# Altium integrated library Micron Memory DDR3 SDRAM.IntLib: 123 symbols (part 32 of 37)
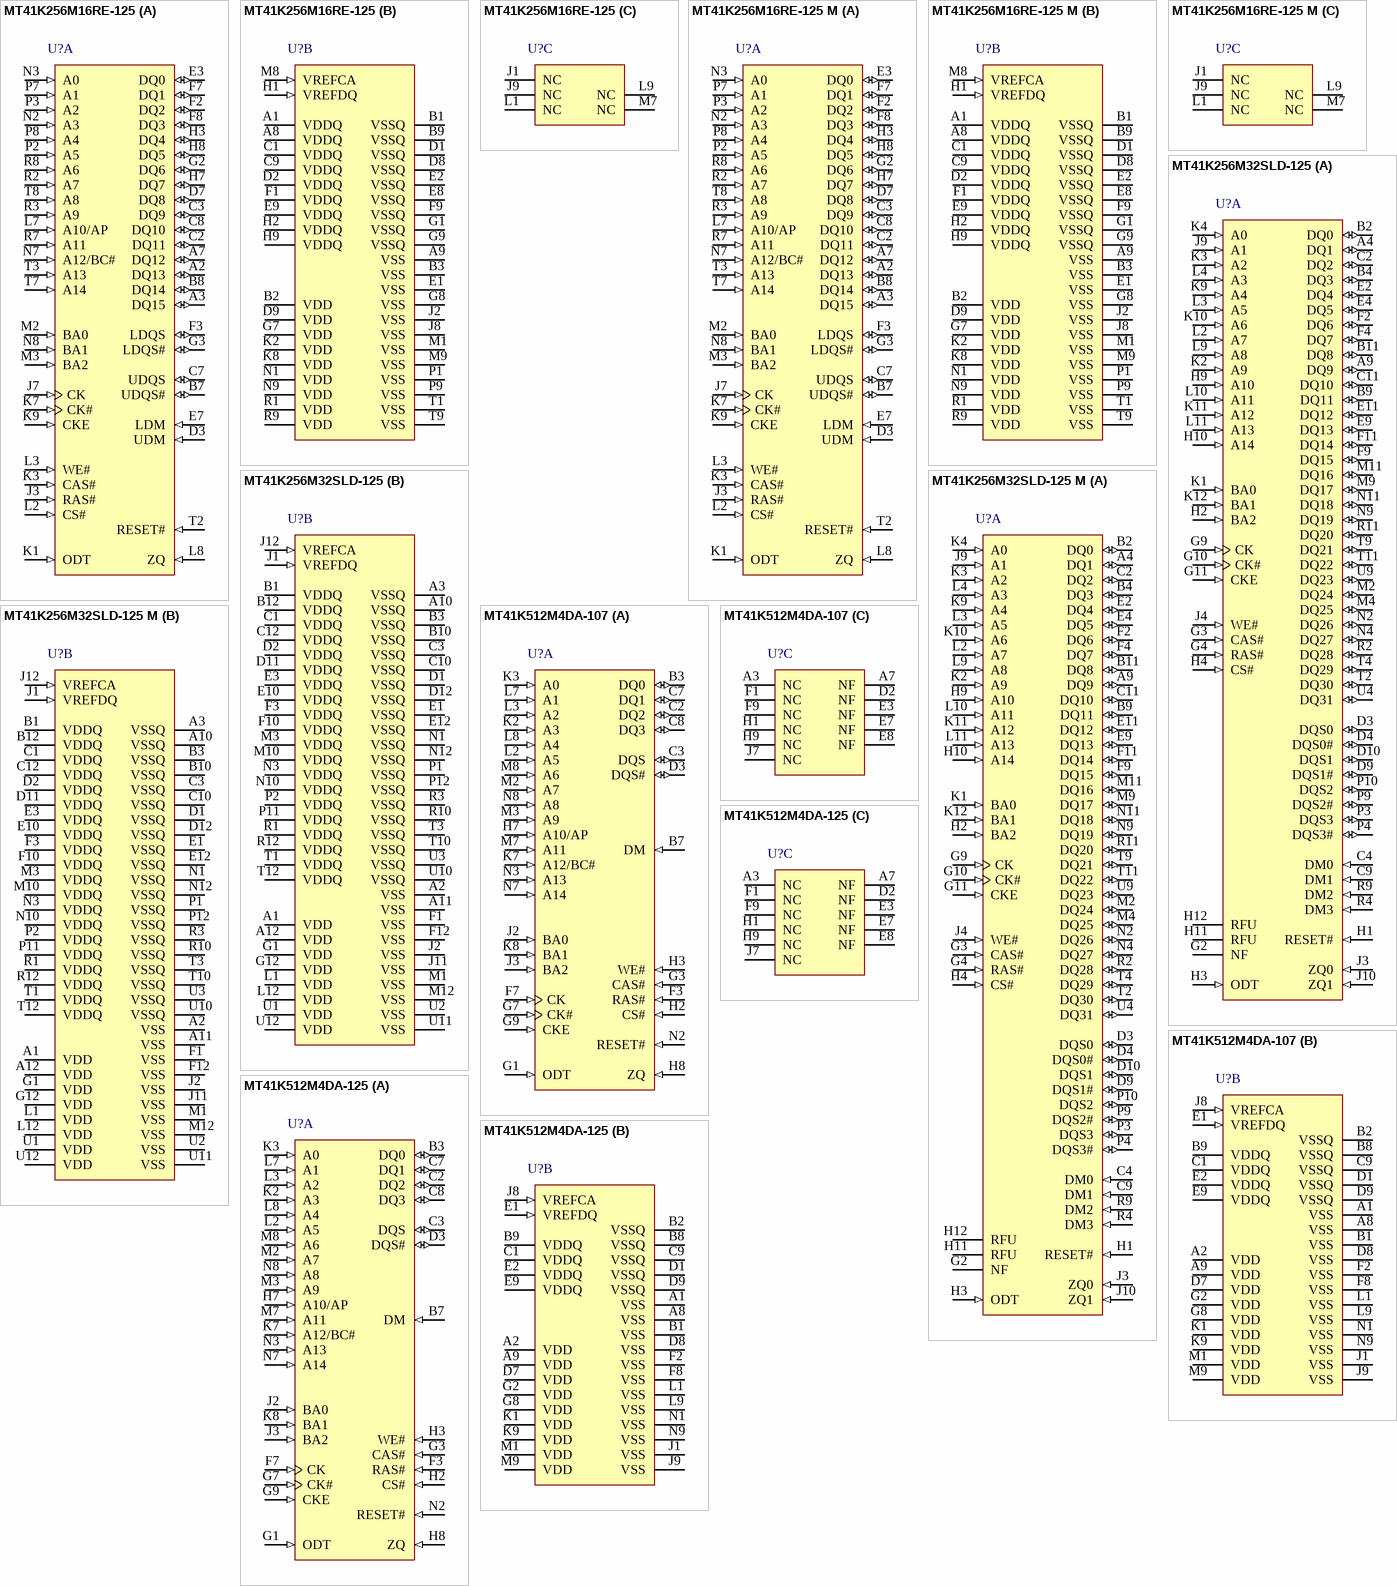
[diagram p49: symbols MT41K256M16RE-125 to MT41K512M4DA-125]

## MT41K256M32SLD-125
designator U?
4Gb SDRAM, 256Mb x 32, 1.25ns, 1.35V, 0 to 95 degC, 136-Ball FBGA, Pb-Free; Manufacturer: Micron; PartNumber: MT41K256M32SLD-125; CL: CL = 11; Clock Rate: 800 MHz; Density: 8Gb; Op. Temp.: 0C to +95C; DatasheetVersion: Rev. B; PackageReference: MICT-SLD-136; PackageDescription: 136-Ball Fine-Pitch Ball Grid Array, 14 x 10 mm, Pitch 0.8 mm; Cycle Time: 1.25ns; Depth: 256Mb; Package: FBGA; RoHS: Yes; Voltage: 1.35V; Width: x32; Mounting Technology: Surface Mount; ComponentLink1Description: Manufacturer URL; ComponentLink1URL: http://www.micron.com/; ComponentLink2Description: Datasheet; ComponentLink2URL: http://www.micron.com/~/media/Documents/Products/Data%20Sheet/DRAM/DDR3L_8Gb_x32_1CS_TwinDie_V70S_V80A.pdf; ComponentLink3Description: Package Specification; ComponentLink3URL: http://www.micron.com/~/media/Documents/Products/Data%20Sheet/DRAM/DDR3L-RS_8Gb_x32_1CS_TwinDie_V80A.pdf
footprint MICT-SLD-136 (BGA, 100-Balls, Body 14x10mm, Pitch 0.8mm)
part A pins: A4 DQ1 (io) "Data input/output: Bidirectional data bus. DQ[31:0] are referenced to VREFDQ.", A9 DQ9 (io) "Data input/output: Bidirectional data bus. DQ[31:0] are referenced to VREFDQ.", B2 DQ0 (io) "Data input/output: Bidirectional data bus. DQ[31:0] are referenced to VREFDQ.", B4 DQ3 (io) "Data input/output: Bidirectional data bus. DQ[31:0] are referenced to VREFDQ.", B9 DQ11 (io) "Data input/output: Bidirectional data bus. DQ[31:0] are referenced to VREFDQ.", B11 DQ8 (io) "Data input/output: Bidirectional data bus. DQ[31:0] are referenced to VREFDQ.", C2 DQ2 (io) "Data input/output: Bidirectional data bus. DQ[31:0] are referenced to VREFDQ.", C4 DM0 (in) "Input data mask: DM is an input mask signal for write data. Input data is masked when DM is sampled HIGH, along with the input data, during a write access. Although the DM ball is input-only, the DM loading is designed to (See Datasheet)", C9 DM1 (in) "Input data mask: DM is an input mask signal for write data. Input data is masked when DM is sampled HIGH, along with the input data, during a write access. Although the DM ball is input-only, the DM loading is designed to (See Datasheet)", C11 DQ10 (io) "Data input/output: Bidirectional data bus. DQ[31:0] are referenced to VREFDQ.", D3 DQS0 (io) "Data strobe: DQS and DQS# pairs are differential data strobes; there is one DQS and DQS# pair per byte. The DQS strobes output with read data; edge aligned with read data; input with write data; center-aligned with write (See Datasheet)", D4 DQS0# (io) "Data strobe: DQS and DQS# pairs are differential data strobes; there is one DQS and DQS# pair per byte. The DQS strobes output with read data; edge aligned with read data; input with write data; center-aligned with write (See Datasheet)", D9 DQS1# (io) "Data strobe: DQS and DQS# pairs are differential data strobes; there is one DQS and DQS# pair per byte. The DQS strobes output with read data; edge aligned with read data; input with write data; center-aligned with write (See Datasheet)", D10 DQS1 (io) "Data strobe: DQS and DQS# pairs are differential data strobes; there is one DQS and DQS# pair per byte. The DQS strobes output with read data; edge aligned with read data; input with write data; center-aligned with write (See Datasheet)", E2 DQ4 (io) "Data input/output: Bidirectional data bus. DQ[31:0] are referenced to VREFDQ.", E4 DQ5 (io) "Data input/output: Bidirectional data bus. DQ[31:0] are referenced to VREFDQ.", E9 DQ13 (io) "Data input/output: Bidirectional data bus. DQ[31:0] are referenced to VREFDQ.", E11 DQ12 (io) "Data input/output: Bidirectional data bus. DQ[31:0] are referenced to VREFDQ.", F2 DQ6 (io) "Data input/output: Bidirectional data bus. DQ[31:0] are referenced to VREFDQ.", F4 DQ7 (io) "Data input/output: Bidirectional data bus. DQ[31:0] are referenced to VREFDQ.", F9 DQ15 (io) "Data input/output: Bidirectional data bus. DQ[31:0] are referenced to VREFDQ.", F11 DQ14 (io) "Data input/output: Bidirectional data bus. DQ[31:0] are referenced to VREFDQ.", G2 NF "No function: These balls should be left unconnected (the ball may have connection to the DRAM or to other balls).", G3 CAS# (in) "Command inputs: RAS#, CAS#, and WE# (along with CS#) define the command being entered and are referenced to VREFCA.", G4 RAS# (in) "Command inputs: RAS#, CAS#, and WE# (along with CS#) define the command being entered and are referenced to VREFCA.", G9 CK (in) "Clock: CK and CK# are differential clock inputs. All command, address, and control input signals are sampled on the crossing of the positive edge of CK and the negative edge of CK#. Output data strobe (DQS, DQS#) is (See Datasheet)", G10 CK# (in) "Clock: CK and CK# are differential clock inputs. All command, address, and control input signals are sampled on the crossing of the positive edge of CK and the negative edge of CK#. Output data strobe (DQS, DQS#) is (See Datasheet)", G11 CKE (in) "Clock enable: CKE enables (registered HIGH) and disables (registered LOW) internal circuitry and clocks on the DRAM. The specific circuitry that is enabled/disabled is dependent upon the DDR3L SDRAM configuration and (See Datasheet)", H1 RESET# (in) "Reset: RESET# is an active LOW CMOS input referenced to VSS. The RESET# input receiver is a CMOS input defined as a rail-to-rail signal with DC HIGH >= 0.8 x VDDQ and DC LOW =< 0.2 x VDDQ. RESET# assertion and desertion are (See Datasheet)", H2 BA2 (in) "Bank address inputs: BA[2:0] define the bank to which an ACTIVATE, READ, WRITE, or PRECHARGE command is being applied. BA[2:0] define which mode register (MR0, MR1, MR2, or MR3) is loaded during the LOAD MODE command. (See Datasheet)", H3 ODT (in) "On-die termination: ODT enables (registered HIGH) and disables (registered LOW) termination resistance internal to the DDR3 SDRAM. When enabled in normal operation, ODT is only applied to DQ[31:0], DQS[3:0], DQS#[3:0], and (See Datasheet)", H4 CS# (in) "Chip select: CS# enables (registered LOW) and disables (registered HIGH) the command decoder. All commands are masked when CS# is registered HIGH. CS# provides for external rank selection on systems with multiple ranks. CS0# (See Datasheet)", H9 A10 (in) "Address inputs: Provide the row address for ACTIVATE commands, and the column address and auto precharge bit (A10) for READ/WRITE commands, to select one location out of the memory array in the respective bank. A10 sampled (See Datasheet)", H10 A14 (in) "Address inputs: Provide the row address for ACTIVATE commands, and the column address and auto precharge bit (A10) for READ/WRITE commands, to select one location out of the memory array in the respective bank. A10 sampled (See Datasheet)", H11 RFU, H12 RFU, J3 ZQ0 (in) "External reference ball for output drive calibration: Each ball is tied to its own external 240ohm resistor (RZQ), which is tied to VSSQ. Each resistor is connected to a seperate x16 die.", J4 WE# (in) "Command inputs: RAS#, CAS#, and WE# (along with CS#) define the command being entered and are referenced to VREFCA.", J9 A1 (in) "Address inputs: Provide the row address for ACTIVATE commands, and the column address and auto precharge bit (A10) for READ/WRITE commands, to select one location out of the memory array in the respective bank. A10 sampled (See Datasheet)", J10 ZQ1 (in) "External reference ball for output drive calibration: Each ball is tied to its own external 240ohm resistor (RZQ), which is tied to VSSQ. Each resistor is connected to a seperate x16 die.", K1 BA0 (in) "Bank address inputs: BA[2:0] define the bank to which an ACTIVATE, READ, WRITE, or PRECHARGE command is being applied. BA[2:0] define which mode register (MR0, MR1, MR2, or MR3) is loaded during the LOAD MODE command. (See Datasheet)", K2 A9 (in) "Address inputs: Provide the row address for ACTIVATE commands, and the column address and auto precharge bit (A10) for READ/WRITE commands, to select one location out of the memory array in the respective bank. A10 sampled (See Datasheet)", K3 A2 (in) "Address inputs: Provide the row address for ACTIVATE commands, and the column address and auto precharge bit (A10) for READ/WRITE commands, to select one location out of the memory array in the respective bank. A10 sampled (See Datasheet)", K4 A0 (in) "Address inputs: Provide the row address for ACTIVATE commands, and the column address and auto precharge bit (A10) for READ/WRITE commands, to select one location out of the memory array in the respective bank. A10 sampled (See Datasheet)", K9 A4 (in) "Address inputs: Provide the row address for ACTIVATE commands, and the column address and auto precharge bit (A10) for READ/WRITE commands, to select one location out of the memory array in the respective bank. A10 sampled (See Datasheet)", K10 A6 (in) "Address inputs: Provide the row address for ACTIVATE commands, and the column address and auto precharge bit (A10) for READ/WRITE commands, to select one location out of the memory array in the respective bank. A10 sampled (See Datasheet)", K11 A12 (in) "Address inputs: Provide the row address for ACTIVATE commands, and the column address and auto precharge bit (A10) for READ/WRITE commands, to select one location out of the memory array in the respective bank. A10 sampled (See Datasheet)", K12 BA1 (in) "Bank address inputs: BA[2:0] define the bank to which an ACTIVATE, READ, WRITE, or PRECHARGE command is being applied. BA[2:0] define which mode register (MR0, MR1, MR2, or MR3) is loaded during the LOAD MODE command. (See Datasheet)", L2 A7 (in) "Address inputs: Provide the row address for ACTIVATE commands, and the column address and auto precharge bit (A10) for READ/WRITE commands, to select one location out of the memory array in the respective bank. A10 sampled (See Datasheet)", L3 A5 (in) "Address inputs: Provide the row address for ACTIVATE commands, and the column address and auto precharge bit (A10) for READ/WRITE commands, to select one location out of the memory array in the respective bank. A10 sampled (See Datasheet)", L4 A3 (in) "Address inputs: Provide the row address for ACTIVATE commands, and the column address and auto precharge bit (A10) for READ/WRITE commands, to select one location out of the memory array in the respective bank. A10 sampled (See Datasheet)", L9 A8 (in) "Address inputs: Provide the row address for ACTIVATE commands, and the column address and auto precharge bit (A10) for READ/WRITE commands, to select one location out of the memory array in the respective bank. A10 sampled (See Datasheet)", L10 A11 (in) "Address inputs: Provide the row address for ACTIVATE commands, and the column address and auto precharge bit (A10) for READ/WRITE commands, to select one location out of the memory array in the respective bank. A10 sampled (See Datasheet)", L11 A13 (in) "Address inputs: Provide the row address for ACTIVATE commands, and the column address and auto precharge bit (A10) for READ/WRITE commands, to select one location out of the memory array in the respective bank. A10 sampled (See Datasheet)", M2 DQ24 (io) "Data input/output: Bidirectional data bus. DQ[31:0] are referenced to VREFDQ.", M4 DQ25 (io) "Data input/output: Bidirectional data bus. DQ[31:0] are referenced to VREFDQ.", M9 DQ17 (io) "Data input/output: Bidirectional data bus. DQ[31:0] are referenced to VREFDQ.", M11 DQ16 (io) "Data input/output: Bidirectional data bus. DQ[31:0] are referenced to VREFDQ.", N2 DQ26 (io) "Data input/output: Bidirectional data bus. DQ[31:0] are referenced to VREFDQ.", N4 DQ27 (io) "Data input/output: Bidirectional data bus. DQ[31:0] are referenced to VREFDQ.", N9 DQ19 (io) "Data input/output: Bidirectional data bus. DQ[31:0] are referenced to VREFDQ.", N11 DQ18 (io) "Data input/output: Bidirectional data bus. DQ[31:0] are referenced to VREFDQ.", P3 DQS3 (io) "Data strobe: DQS and DQS# pairs are differential data strobes; there is one DQS and DQS# pair per byte. The DQS strobes output with read data; edge aligned with read data; input with write data; center-aligned with write (See Datasheet)", P4 DQS3# (io) "Data strobe: DQS and DQS# pairs are differential data strobes; there is one DQS and DQS# pair per byte. The DQS strobes output with read data; edge aligned with read data; input with write data; center-aligned with write (See Datasheet)", P9 DQS2# (io) "Data strobe: DQS and DQS# pairs are differential data strobes; there is one DQS and DQS# pair per byte. The DQS strobes output with read data; edge aligned with read data; input with write data; center-aligned with write (See Datasheet)", P10 DQS2 (io) "Data strobe: DQS and DQS# pairs are differential data strobes; there is one DQS and DQS# pair per byte. The DQS strobes output with read data; edge aligned with read data; input with write data; center-aligned with write (See Datasheet)", R2 DQ28 (io) "Data input/output: Bidirectional data bus. DQ[31:0] are referenced to VREFDQ.", R4 DM3 (in) "Input data mask: DM is an input mask signal for write data. Input data is masked when DM is sampled HIGH, along with the input data, during a write access. Although the DM ball is input-only, the DM loading is designed to (See Datasheet)", R9 DM2 (in) "Input data mask: DM is an input mask signal for write data. Input data is masked when DM is sampled HIGH, along with the input data, during a write access. Although the DM ball is input-only, the DM loading is designed to (See Datasheet)", R11 DQ20 (io) "Data input/output: Bidirectional data bus. DQ[31:0] are referenced to VREFDQ.", T2 DQ30 (io) "Data input/output: Bidirectional data bus. DQ[31:0] are referenced to VREFDQ.", T4 DQ29 (io) "Data input/output: Bidirectional data bus. DQ[31:0] are referenced to VREFDQ.", T9 DQ21 (io) "Data input/output: Bidirectional data bus. DQ[31:0] are referenced to VREFDQ.", T11 DQ22 (io) "Data input/output: Bidirectional data bus. DQ[31:0] are referenced to VREFDQ.", U4 DQ31 (io) "Data input/output: Bidirectional data bus. DQ[31:0] are referenced to VREFDQ.", U9 DQ23 (io) "Data input/output: Bidirectional data bus. DQ[31:0] are referenced to VREFDQ."
part B pins: A1 VDD (power) "Power supply: 1.35V (1.283-1.45V operational)", A2 VSS (power) "Ground.", A3 VSSQ (power) "DQ ground: Isolated on the device for improved noise immunity.", A10 VSSQ (power) "DQ ground: Isolated on the device for improved noise immunity.", A11 VSS (power) "Ground.", A12 VDD (power) "Power supply: 1.35V (1.283-1.45V operational)", B1 VDDQ (power) "DQ power supply: 1.35V (1.283-1.45V operational)", B3 VSSQ (power) "DQ ground: Isolated on the device for improved noise immunity.", B10 VSSQ (power) "DQ ground: Isolated on the device for improved noise immunity.", B12 VDDQ (power) "DQ power supply: 1.35V (1.283-1.45V operational)", C1 VDDQ (power) "DQ power supply: 1.35V (1.283-1.45V operational)", C3 VSSQ (power) "DQ ground: Isolated on the device for improved noise immunity.", C10 VSSQ (power) "DQ ground: Isolated on the device for improved noise immunity.", C12 VDDQ (power) "DQ power supply: 1.35V (1.283-1.45V operational)", D1 VSSQ (power) "DQ ground: Isolated on the device for improved noise immunity.", D2 VDDQ (power) "DQ power supply: 1.35V (1.283-1.45V operational)", D11 VDDQ (power) "DQ power supply: 1.35V (1.283-1.45V operational)", D12 VSSQ (power) "DQ ground: Isolated on the device for improved noise immunity.", E1 VSSQ (power) "DQ ground: Isolated on the device for improved noise immunity.", E3 VDDQ (power) "DQ power supply: 1.35V (1.283-1.45V operational)", E10 VDDQ (power) "DQ power supply: 1.35V (1.283-1.45V operational)", E12 VSSQ (power) "DQ ground: Isolated on the device for improved noise immunity.", F1 VSS (power) "Ground.", F3 VDDQ (power) "DQ power supply: 1.35V (1.283-1.45V operational)", F10 VDDQ (power) "DQ power supply: 1.35V (1.283-1.45V operational)", F12 VSS (power) "Ground.", G1 VDD (power) "Power supply: 1.35V (1.283-1.45V operational)", G12 VDD (power) "Power supply: 1.35V (1.283-1.45V operational)", J1 VREFDQ (in) "Reference voltage for data: VREFDQ must be maintained at all times (including self refresh) for proper device operation.", J2 VSS (power) "Ground.", J11 VSS (power) "Ground.", J12 VREFCA (in) "Reference voltage for control, command, and address: VREFCA must be maintained at all times (including self refresh) for proper device operation.", L1 VDD (power) "Power supply: 1.35V (1.283-1.45V operational)", L12 VDD (power) "Power supply: 1.35V (1.283-1.45V operational)", M1 VSS (power) "Ground.", M3 VDDQ (power) "DQ power supply: 1.35V (1.283-1.45V operational)", M10 VDDQ (power) "DQ power supply: 1.35V (1.283-1.45V operational)", M12 VSS (power) "Ground.", N1 VSSQ (power) "DQ ground: Isolated on the device for improved noise immunity.", N3 VDDQ (power) "DQ power supply: 1.35V (1.283-1.45V operational)", N10 VDDQ (power) "DQ power supply: 1.35V (1.283-1.45V operational)", N12 VSSQ (power) "DQ ground: Isolated on the device for improved noise immunity.", P1 VSSQ (power) "DQ ground: Isolated on the device for improved noise immunity.", P2 VDDQ (power) "DQ power supply: 1.35V (1.283-1.45V operational)", P11 VDDQ (power) "DQ power supply: 1.35V (1.283-1.45V operational)", P12 VSSQ (power) "DQ ground: Isolated on the device for improved noise immunity.", R1 VDDQ (power) "DQ power supply: 1.35V (1.283-1.45V operational)", R3 VSSQ (power) "DQ ground: Isolated on the device for improved noise immunity.", R10 VSSQ (power) "DQ ground: Isolated on the device for improved noise immunity.", R12 VDDQ (power) "DQ power supply: 1.35V (1.283-1.45V operational)", T1 VDDQ (power) "DQ power supply: 1.35V (1.283-1.45V operational)", T3 VSSQ (power) "DQ ground: Isolated on the device for improved noise immunity.", T10 VSSQ (power) "DQ ground: Isolated on the device for improved noise immunity.", T12 VDDQ (power) "DQ power supply: 1.35V (1.283-1.45V operational)", U1 VDD (power) "Power supply: 1.35V (1.283-1.45V operational)", U2 VSS (power) "Ground.", U3 VSSQ (power) "DQ ground: Isolated on the device for improved noise immunity.", U10 VSSQ (power) "DQ ground: Isolated on the device for improved noise immunity.", U11 VSS (power) "Ground.", U12 VDD (power) "Power supply: 1.35V (1.283-1.45V operational)"

## MT41K256M32SLD-125 M
designator U?
4Gb SDRAM, 256Mb x 32, 1.25ns, 1.35V, 0 to 95 degC, 136-Ball FBGA, Pb-Free; Manufacturer: Micron; PartNumber: MT41K256M32SLD-125 M; CL: CL = 11; Clock Rate: 800 MHz; Density: 8Gb; Op. Temp.: 0C to +95C; DatasheetVersion: Rev. E; PackageReference: MICT-SLD-136; PackageDescription: 136-Ball Fine-Pitch Ball Grid Array, 14 x 10 mm, Pitch 0.8 mm; Cycle Time: 1.25ns; Depth: 256Mb; Package: FBGA; RoHS: Yes; Voltage: 1.35V; Width: x32; Mounting Technology: Surface Mount; ComponentLink1Description: Manufacturer URL; ComponentLink1URL: http://www.micron.com/; ComponentLink2Description: Datasheet; ComponentLink2URL: http://www.micron.com/~/media/Documents/Products/Data%20Sheet/DRAM/DDR3L-RS_8Gb_x32_1CS_TwinDie_V80A.pdf; ComponentLink3Description: Package Specification; ComponentLink3URL: http://www.micron.com/~/media/Documents/Products/Data%20Sheet/DRAM/DDR3L-RS_8Gb_x32_1CS_TwinDie_V80A.pdf
footprint MICT-SLD-136 (BGA, 100-Balls, Body 14x10mm, Pitch 0.8mm)
part A pins: A4 DQ1 (io) "Data input/output: Bidirectional data bus. DQ[31:0] are referenced to VREFDQ.", A9 DQ9 (io) "Data input/output: Bidirectional data bus. DQ[31:0] are referenced to VREFDQ.", B2 DQ0 (io) "Data input/output: Bidirectional data bus. DQ[31:0] are referenced to VREFDQ.", B4 DQ3 (io) "Data input/output: Bidirectional data bus. DQ[31:0] are referenced to VREFDQ.", B9 DQ11 (io) "Data input/output: Bidirectional data bus. DQ[31:0] are referenced to VREFDQ.", B11 DQ8 (io) "Data input/output: Bidirectional data bus. DQ[31:0] are referenced to VREFDQ.", C2 DQ2 (io) "Data input/output: Bidirectional data bus. DQ[31:0] are referenced to VREFDQ.", C4 DM0 (in) "Input data mask: DM is an input mask signal for write data. Input data is masked when DM is sampled HIGH, along with the input data, during a write access. Although the DM ball is input-only, the DM loading is designed to (See Datasheet)", C9 DM1 (in) "Input data mask: DM is an input mask signal for write data. Input data is masked when DM is sampled HIGH, along with the input data, during a write access. Although the DM ball is input-only, the DM loading is designed to (See Datasheet)", C11 DQ10 (io) "Data input/output: Bidirectional data bus. DQ[31:0] are referenced to VREFDQ.", D3 DQS0 (io) "Data strobe: DQS and DQS# pairs are differential data strobes; there is one DQS and DQS# pair per byte. The DQS strobes output with read data; edge aligned with read data; input with write data; center-aligned with write (See Datasheet)", D4 DQS0# (io) "Data strobe: DQS and DQS# pairs are differential data strobes; there is one DQS and DQS# pair per byte. The DQS strobes output with read data; edge aligned with read data; input with write data; center-aligned with write (See Datasheet)", D9 DQS1# (io) "Data strobe: DQS and DQS# pairs are differential data strobes; there is one DQS and DQS# pair per byte. The DQS strobes output with read data; edge aligned with read data; input with write data; center-aligned with write (See Datasheet)", D10 DQS1 (io) "Data strobe: DQS and DQS# pairs are differential data strobes; there is one DQS and DQS# pair per byte. The DQS strobes output with read data; edge aligned with read data; input with write data; center-aligned with write (See Datasheet)", E2 DQ4 (io) "Data input/output: Bidirectional data bus. DQ[31:0] are referenced to VREFDQ.", E4 DQ5 (io) "Data input/output: Bidirectional data bus. DQ[31:0] are referenced to VREFDQ.", E9 DQ13 (io) "Data input/output: Bidirectional data bus. DQ[31:0] are referenced to VREFDQ.", E11 DQ12 (io) "Data input/output: Bidirectional data bus. DQ[31:0] are referenced to VREFDQ.", F2 DQ6 (io) "Data input/output: Bidirectional data bus. DQ[31:0] are referenced to VREFDQ.", F4 DQ7 (io) "Data input/output: Bidirectional data bus. DQ[31:0] are referenced to VREFDQ.", F9 DQ15 (io) "Data input/output: Bidirectional data bus. DQ[31:0] are referenced to VREFDQ.", F11 DQ14 (io) "Data input/output: Bidirectional data bus. DQ[31:0] are referenced to VREFDQ.", G2 NF "No function: These balls should be left unconnected (the ball may have connection to the DRAM or to other balls).", G3 CAS# (in) "Command inputs: RAS#, CAS#, and WE# (along with CS#) define the command being entered and are referenced to VREFCA.", G4 RAS# (in) "Command inputs: RAS#, CAS#, and WE# (along with CS#) define the command being entered and are referenced to VREFCA.", G9 CK (in) "Clock: CK and CK# are differential clock inputs. All command, address, and control input signals are sampled on the crossing of the positive edge of CK and the negative edge of CK#. Output data strobe (DQS, DQS#) is (See Datasheet)", G10 CK# (in) "Clock: CK and CK# are differential clock inputs. All command, address, and control input signals are sampled on the crossing of the positive edge of CK and the negative edge of CK#. Output data strobe (DQS, DQS#) is (See Datasheet)", G11 CKE (in) "Clock enable: CKE enables (registered HIGH) and disables (registered LOW) internal circuitry and clocks on the DRAM. The specific circuitry that is enabled/disabled is dependent upon the DDR3L SDRAM configuration and (See Datasheet)", H1 RESET# (in) "Reset: RESET# is an active LOW CMOS input referenced to VSS. The RESET# input receiver is a CMOS input defined as a rail-to-rail signal with DC HIGH >= 0.8 x VDDQ and DC LOW =< 0.2 x VDDQ. RESET# assertion and desertion are (See Datasheet)", H2 BA2 (in) "Bank address inputs: BA[2:0] define the bank to which an ACTIVATE, READ, WRITE, or PRECHARGE command is being applied. BA[2:0] define which mode register (MR0, MR1, MR2, or MR3) is loaded during the LOAD MODE command. (See Datasheet)", H3 ODT (in) "On-die termination: ODT enables (registered HIGH) and disables (registered LOW) termination resistance internal to the DDR3 SDRAM. When enabled in normal operation, ODT is only applied to DQ[31:0], DQS[3:0], DQS#[3:0], and (See Datasheet)", H4 CS# (in) "Chip select: CS# enables (registered LOW) and disables (registered HIGH) the command decoder. All commands are masked when CS# is registered HIGH. CS# provides for external rank selection on systems with multiple ranks. CS0# (See Datasheet)", H9 A10 (in) "Address inputs: Provide the row address for ACTIVATE commands, and the column address and auto precharge bit (A10) for READ/WRITE commands, to select one location out of the memory array in the respective bank. A10 sampled (See Datasheet)", H10 A14 (in) "Address inputs: Provide the row address for ACTIVATE commands, and the column address and auto precharge bit (A10) for READ/WRITE commands, to select one location out of the memory array in the respective bank. A10 sampled (See Datasheet)", H11 RFU, H12 RFU, J3 ZQ0 (in) "External reference ball for output drive calibration: Each ball is tied to its own external 240ohm resistor (RZQ), which is tied to VSSQ. Each resistor is connected to a seperate x16 die.", J4 WE# (in) "Command inputs: RAS#, CAS#, and WE# (along with CS#) define the command being entered and are referenced to VREFCA.", J9 A1 (in) "Address inputs: Provide the row address for ACTIVATE commands, and the column address and auto precharge bit (A10) for READ/WRITE commands, to select one location out of the memory array in the respective bank. A10 sampled (See Datasheet)", J10 ZQ1 (in) "External reference ball for output drive calibration: Each ball is tied to its own external 240ohm resistor (RZQ), which is tied to VSSQ. Each resistor is connected to a seperate x16 die.", K1 BA0 (in) "Bank address inputs: BA[2:0] define the bank to which an ACTIVATE, READ, WRITE, or PRECHARGE command is being applied. BA[2:0] define which mode register (MR0, MR1, MR2, or MR3) is loaded during the LOAD MODE command. (See Datasheet)", K2 A9 (in) "Address inputs: Provide the row address for ACTIVATE commands, and the column address and auto precharge bit (A10) for READ/WRITE commands, to select one location out of the memory array in the respective bank. A10 sampled (See Datasheet)", K3 A2 (in) "Address inputs: Provide the row address for ACTIVATE commands, and the column address and auto precharge bit (A10) for READ/WRITE commands, to select one location out of the memory array in the respective bank. A10 sampled (See Datasheet)", K4 A0 (in) "Address inputs: Provide the row address for ACTIVATE commands, and the column address and auto precharge bit (A10) for READ/WRITE commands, to select one location out of the memory array in the respective bank. A10 sampled (See Datasheet)", K9 A4 (in) "Address inputs: Provide the row address for ACTIVATE commands, and the column address and auto precharge bit (A10) for READ/WRITE commands, to select one location out of the memory array in the respective bank. A10 sampled (See Datasheet)", K10 A6 (in) "Address inputs: Provide the row address for ACTIVATE commands, and the column address and auto precharge bit (A10) for READ/WRITE commands, to select one location out of the memory array in the respective bank. A10 sampled (See Datasheet)", K11 A12 (in) "Address inputs: Provide the row address for ACTIVATE commands, and the column address and auto precharge bit (A10) for READ/WRITE commands, to select one location out of the memory array in the respective bank. A10 sampled (See Datasheet)", K12 BA1 (in) "Bank address inputs: BA[2:0] define the bank to which an ACTIVATE, READ, WRITE, or PRECHARGE command is being applied. BA[2:0] define which mode register (MR0, MR1, MR2, or MR3) is loaded during the LOAD MODE command. (See Datasheet)", L2 A7 (in) "Address inputs: Provide the row address for ACTIVATE commands, and the column address and auto precharge bit (A10) for READ/WRITE commands, to select one location out of the memory array in the respective bank. A10 sampled (See Datasheet)", L3 A5 (in) "Address inputs: Provide the row address for ACTIVATE commands, and the column address and auto precharge bit (A10) for READ/WRITE commands, to select one location out of the memory array in the respective bank. A10 sampled (See Datasheet)", L4 A3 (in) "Address inputs: Provide the row address for ACTIVATE commands, and the column address and auto precharge bit (A10) for READ/WRITE commands, to select one location out of the memory array in the respective bank. A10 sampled (See Datasheet)", L9 A8 (in) "Address inputs: Provide the row address for ACTIVATE commands, and the column address and auto precharge bit (A10) for READ/WRITE commands, to select one location out of the memory array in the respective bank. A10 sampled (See Datasheet)", L10 A11 (in) "Address inputs: Provide the row address for ACTIVATE commands, and the column address and auto precharge bit (A10) for READ/WRITE commands, to select one location out of the memory array in the respective bank. A10 sampled (See Datasheet)", L11 A13 (in) "Address inputs: Provide the row address for ACTIVATE commands, and the column address and auto precharge bit (A10) for READ/WRITE commands, to select one location out of the memory array in the respective bank. A10 sampled (See Datasheet)", M2 DQ24 (io) "Data input/output: Bidirectional data bus. DQ[31:0] are referenced to VREFDQ.", M4 DQ25 (io) "Data input/output: Bidirectional data bus. DQ[31:0] are referenced to VREFDQ.", M9 DQ17 (io) "Data input/output: Bidirectional data bus. DQ[31:0] are referenced to VREFDQ.", M11 DQ16 (io) "Data input/output: Bidirectional data bus. DQ[31:0] are referenced to VREFDQ.", N2 DQ26 (io) "Data input/output: Bidirectional data bus. DQ[31:0] are referenced to VREFDQ.", N4 DQ27 (io) "Data input/output: Bidirectional data bus. DQ[31:0] are referenced to VREFDQ.", N9 DQ19 (io) "Data input/output: Bidirectional data bus. DQ[31:0] are referenced to VREFDQ.", N11 DQ18 (io) "Data input/output: Bidirectional data bus. DQ[31:0] are referenced to VREFDQ.", P3 DQS3 (io) "Data strobe: DQS and DQS# pairs are differential data strobes; there is one DQS and DQS# pair per byte. The DQS strobes output with read data; edge aligned with read data; input with write data; center-aligned with write (See Datasheet)", P4 DQS3# (io) "Data strobe: DQS and DQS# pairs are differential data strobes; there is one DQS and DQS# pair per byte. The DQS strobes output with read data; edge aligned with read data; input with write data; center-aligned with write (See Datasheet)", P9 DQS2# (io) "Data strobe: DQS and DQS# pairs are differential data strobes; there is one DQS and DQS# pair per byte. The DQS strobes output with read data; edge aligned with read data; input with write data; center-aligned with write (See Datasheet)", P10 DQS2 (io) "Data strobe: DQS and DQS# pairs are differential data strobes; there is one DQS and DQS# pair per byte. The DQS strobes output with read data; edge aligned with read data; input with write data; center-aligned with write (See Datasheet)", R2 DQ28 (io) "Data input/output: Bidirectional data bus. DQ[31:0] are referenced to VREFDQ.", R4 DM3 (in) "Input data mask: DM is an input mask signal for write data. Input data is masked when DM is sampled HIGH, along with the input data, during a write access. Although the DM ball is input-only, the DM loading is designed to (See Datasheet)", R9 DM2 (in) "Input data mask: DM is an input mask signal for write data. Input data is masked when DM is sampled HIGH, along with the input data, during a write access. Although the DM ball is input-only, the DM loading is designed to (See Datasheet)", R11 DQ20 (io) "Data input/output: Bidirectional data bus. DQ[31:0] are referenced to VREFDQ.", T2 DQ30 (io) "Data input/output: Bidirectional data bus. DQ[31:0] are referenced to VREFDQ.", T4 DQ29 (io) "Data input/output: Bidirectional data bus. DQ[31:0] are referenced to VREFDQ.", T9 DQ21 (io) "Data input/output: Bidirectional data bus. DQ[31:0] are referenced to VREFDQ.", T11 DQ22 (io) "Data input/output: Bidirectional data bus. DQ[31:0] are referenced to VREFDQ.", U4 DQ31 (io) "Data input/output: Bidirectional data bus. DQ[31:0] are referenced to VREFDQ.", U9 DQ23 (io) "Data input/output: Bidirectional data bus. DQ[31:0] are referenced to VREFDQ."
part B pins: A1 VDD (power) "Power supply: 1.35V (1.283-1.45V operational)", A2 VSS (power) "Ground.", A3 VSSQ (power) "DQ ground: Isolated on the device for improved noise immunity.", A10 VSSQ (power) "DQ ground: Isolated on the device for improved noise immunity.", A11 VSS (power) "Ground.", A12 VDD (power) "Power supply: 1.35V (1.283-1.45V operational)", B1 VDDQ (power) "DQ power supply: 1.35V (1.283-1.45V operational)", B3 VSSQ (power) "DQ ground: Isolated on the device for improved noise immunity.", B10 VSSQ (power) "DQ ground: Isolated on the device for improved noise immunity.", B12 VDDQ (power) "DQ power supply: 1.35V (1.283-1.45V operational)", C1 VDDQ (power) "DQ power supply: 1.35V (1.283-1.45V operational)", C3 VSSQ (power) "DQ ground: Isolated on the device for improved noise immunity.", C10 VSSQ (power) "DQ ground: Isolated on the device for improved noise immunity.", C12 VDDQ (power) "DQ power supply: 1.35V (1.283-1.45V operational)", D1 VSSQ (power) "DQ ground: Isolated on the device for improved noise immunity.", D2 VDDQ (power) "DQ power supply: 1.35V (1.283-1.45V operational)", D11 VDDQ (power) "DQ power supply: 1.35V (1.283-1.45V operational)", D12 VSSQ (power) "DQ ground: Isolated on the device for improved noise immunity.", E1 VSSQ (power) "DQ ground: Isolated on the device for improved noise immunity.", E3 VDDQ (power) "DQ power supply: 1.35V (1.283-1.45V operational)", E10 VDDQ (power) "DQ power supply: 1.35V (1.283-1.45V operational)", E12 VSSQ (power) "DQ ground: Isolated on the device for improved noise immunity.", F1 VSS (power) "Ground.", F3 VDDQ (power) "DQ power supply: 1.35V (1.283-1.45V operational)", F10 VDDQ (power) "DQ power supply: 1.35V (1.283-1.45V operational)", F12 VSS (power) "Ground.", G1 VDD (power) "Power supply: 1.35V (1.283-1.45V operational)", G12 VDD (power) "Power supply: 1.35V (1.283-1.45V operational)", J1 VREFDQ (in) "Reference voltage for data: VREFDQ must be maintained at all times (including self refresh) for proper device operation.", J2 VSS (power) "Ground.", J11 VSS (power) "Ground.", J12 VREFCA (in) "Reference voltage for control, command, and address: VREFCA must be maintained at all times (including self refresh) for proper device operation.", L1 VDD (power) "Power supply: 1.35V (1.283-1.45V operational)", L12 VDD (power) "Power supply: 1.35V (1.283-1.45V operational)", M1 VSS (power) "Ground.", M3 VDDQ (power) "DQ power supply: 1.35V (1.283-1.45V operational)", M10 VDDQ (power) "DQ power supply: 1.35V (1.283-1.45V operational)", M12 VSS (power) "Ground.", N1 VSSQ (power) "DQ ground: Isolated on the device for improved noise immunity.", N3 VDDQ (power) "DQ power supply: 1.35V (1.283-1.45V operational)", N10 VDDQ (power) "DQ power supply: 1.35V (1.283-1.45V operational)", N12 VSSQ (power) "DQ ground: Isolated on the device for improved noise immunity.", P1 VSSQ (power) "DQ ground: Isolated on the device for improved noise immunity.", P2 VDDQ (power) "DQ power supply: 1.35V (1.283-1.45V operational)", P11 VDDQ (power) "DQ power supply: 1.35V (1.283-1.45V operational)", P12 VSSQ (power) "DQ ground: Isolated on the device for improved noise immunity.", R1 VDDQ (power) "DQ power supply: 1.35V (1.283-1.45V operational)", R3 VSSQ (power) "DQ ground: Isolated on the device for improved noise immunity.", R10 VSSQ (power) "DQ ground: Isolated on the device for improved noise immunity.", R12 VDDQ (power) "DQ power supply: 1.35V (1.283-1.45V operational)", T1 VDDQ (power) "DQ power supply: 1.35V (1.283-1.45V operational)", T3 VSSQ (power) "DQ ground: Isolated on the device for improved noise immunity.", T10 VSSQ (power) "DQ ground: Isolated on the device for improved noise immunity.", T12 VDDQ (power) "DQ power supply: 1.35V (1.283-1.45V operational)", U1 VDD (power) "Power supply: 1.35V (1.283-1.45V operational)", U2 VSS (power) "Ground.", U3 VSSQ (power) "DQ ground: Isolated on the device for improved noise immunity.", U10 VSSQ (power) "DQ ground: Isolated on the device for improved noise immunity.", U11 VSS (power) "Ground.", U12 VDD (power) "Power supply: 1.35V (1.283-1.45V operational)"

## MT41K512M4DA-107
designator U?
2Gb DDR3-1866 SDRAM, 512Mb x 4, 1.071ns, 1.35V, 78-Ball FBGA; Manufacturer: Micron; PartNumber: MT41K512M4DA-107; CL: CL = 13; Clock Rate: 933 MHz; DatasheetVersion: Rev.G; PackageVersion: Rev.H,M,K; PackageReference: MICT-DA-78; PackageDescription: 78-Ball Fine-Pitch Ball Grid Array, 10.5 x 8 mm, Pitch 0.8 mm; Cycle Time: 1.071ns; Data Rate: DDR3-1866; Density: 2Gb; Depth: 512Mb; Package: FBGA; Pin Count: 78-ball; Voltage: 1.35V; Width: x4; Mounting Technology: Surface Mount; ComponentLink1Description: Manufacturer URL; ComponentLink1URL: http://www.micron.com/; ComponentLink2Description: Datasheet; ComponentLink2URL: http://www.micron.com/~/media/Documents/Products/Data%20Sheet/DRAM/2Gb_1_35V_DDR3L.pdf; ComponentLink3Description: Package Specification; ComponentLink3URL: http://www.micron.com/~/media/Documents/Products/Data%20Sheet/DRAM/2Gb_1_35V_DDR3L.pdf
footprint MICT-DA-78 (BGA, 78-Balls, Body 8x10.5mm, Pitch 0.8mm)
part A pins: B3 DQ0 (io) "Data input/output: Bidirectional data bus for the x4 configuration. DQ[3:0] are referenced to VREFDQ.", B7 DM (in) "Input data mask: DM is an input mask signal for write data. Input data is masked when DM is sampled HIGH along with the input data during a write access. Although the DM ball is input-only, the DM loading is designed to (See Datasheet)", C2 DQ2 (io) "Data input/output: Bidirectional data bus for the x4 configuration. DQ[3:0] are referenced to VREFDQ.", C3 DQS (io) "Data strobe: Output with read data. Edge-aligned with read data. Input with write data. Center-aligned to write data.", C7 DQ1 (io) "Data input/output: Bidirectional data bus for the x4 configuration. DQ[3:0] are referenced to VREFDQ.", C8 DQ3 (io) "Data input/output: Bidirectional data bus for the x4 configuration. DQ[3:0] are referenced to VREFDQ.", D3 DQS# (io) "Data strobe: Output with read data. Edge-aligned with read data. Input with write data. Center-aligned to write data.", F3 RAS# (in) "Command inputs: RAS#, CAS#, and WE# (along with CS#) define the command being entered and are referenced to VREFCA.", F7 CK (in) "Clock: CK and CK# are differential clock inputs. All address and control input signals are sampled on the crossing of the positive edge of CK and the negative edge of CK#. Output data strobe (LDQS, LDQS#, UDQS, UDQS#) is (See Datasheet)", G1 ODT (in) "On-die termination: ODT enables (registered HIGH) and disables (registered LOW) termination resistance internal to the DDR3 SDRAM. When enabled in normal operation, ODT is only applied to each of the following balls: (See Datasheet)", G3 CAS# (in) "Command inputs: RAS#, CAS#, and WE# (along with CS#) define the command being entered and are referenced to VREFCA.", G7 CK# (in) "Clock: CK and CK# are differential clock inputs. All address and control input signals are sampled on the crossing of the positive edge of CK and the negative edge of CK#. Output data strobe (LDQS, LDQS#, UDQS, UDQS#) is (See Datasheet)", G9 CKE (in) "Clock enable: CKE enables (registered HIGH) and disables (registered LOW) internal circuitry and clocks on the DRAM. The specific circuitry that is enabled/disabled is dependent upon the DDR3 SDRAM configuration and (See Datasheet)", H2 CS# (in) "Chip select: CS# enables (registered LOW) and disables (registered HIGH) the command decoder. All commands are masked when CS# is registered HIGH. CS# provides for external rank selection on systems with multiple ranks. CS# (See Datasheet)", H3 WE# (in) "Command inputs: RAS#, CAS#, and WE# (along with CS#) define the command being entered and are referenced to VREFCA.", H7 A10/AP (in) "Address inputs: Provide the row address for ACTIVATE commands, and the column address and auto precharge bit (A10) for READ/WRITE commands, to select one location out of the memory array in the respective bank. A10 sampled (See Datasheet)", H8 ZQ (in) "External reference ball for output drive calibration: This ball is tied to an external 240ohm resistor (RZQ), which is tied to VSSQ.", J2 BA0 (in) "Bank address inputs: BA[2:0] define the bank to which an ACTIVATE, READ, WRITE, or PRECHARGE command is being applied. BA[2:0] define which mode register (MR0, MR1, MR2, or MR3) is loaded during the LOAD MODE command. (See Datasheet)", J3 BA2 (in) "Bank address inputs: BA[2:0] define the bank to which an ACTIVATE, READ, WRITE, or PRECHARGE command is being applied. BA[2:0] define which mode register (MR0, MR1, MR2, or MR3) is loaded during the LOAD MODE command. (See Datasheet)", K2 A3 (in) "Address inputs: Provide the row address for ACTIVATE commands, and the column address and auto precharge bit (A10) for READ/WRITE commands, to select one location out of the memory array in the respective bank. A10 sampled (See Datasheet)", K3 A0 (in) "Address inputs: Provide the row address for ACTIVATE commands, and the column address and auto precharge bit (A10) for READ/WRITE commands, to select one location out of the memory array in the respective bank. A10 sampled (See Datasheet)", K7 A12/BC# (in) "Address inputs: Provide the row address for ACTIVATE commands, and the column address and auto precharge bit (A10) for READ/WRITE commands, to select one location out of the memory array in the respective bank. A10 sampled (See Datasheet)", K8 BA1 (in) "Bank address inputs: BA[2:0] define the bank to which an ACTIVATE, READ, WRITE, or PRECHARGE command is being applied. BA[2:0] define which mode register (MR0, MR1, MR2, or MR3) is loaded during the LOAD MODE command. (See Datasheet)", L2 A5 (in) "Address inputs: Provide the row address for ACTIVATE commands, and the column address and auto precharge bit (A10) for READ/WRITE commands, to select one location out of the memory array in the respective bank. A10 sampled (See Datasheet)", L3 A2 (in) "Address inputs: Provide the row address for ACTIVATE commands, and the column address and auto precharge bit (A10) for READ/WRITE commands, to select one location out of the memory array in the respective bank. A10 sampled (See Datasheet)", L7 A1 (in) "Address inputs: Provide the row address for ACTIVATE commands, and the column address and auto precharge bit (A10) for READ/WRITE commands, to select one location out of the memory array in the respective bank. A10 sampled (See Datasheet)", L8 A4 (in) "Address inputs: Provide the row address for ACTIVATE commands, and the column address and auto precharge bit (A10) for READ/WRITE commands, to select one location out of the memory array in the respective bank. A10 sampled (See Datasheet)", M2 A7 (in) "Address inputs: Provide the row address for ACTIVATE commands, and the column address and auto precharge bit (A10) for READ/WRITE commands, to select one location out of the memory array in the respective bank. A10 sampled (See Datasheet)", M3 A9 (in) "Address inputs: Provide the row address for ACTIVATE commands, and the column address and auto precharge bit (A10) for READ/WRITE commands, to select one location out of the memory array in the respective bank. A10 sampled (See Datasheet)", M7 A11 (in) "Address inputs: Provide the row address for ACTIVATE commands, and the column address and auto precharge bit (A10) for READ/WRITE commands, to select one location out of the memory array in the respective bank. A10 sampled (See Datasheet)", M8 A6 (in) "Address inputs: Provide the row address for ACTIVATE commands, and the column address and auto precharge bit (A10) for READ/WRITE commands, to select one location out of the memory array in the respective bank. A10 sampled (See Datasheet)", N2 RESET# (in) "Reset: RESET# is an active LOW CMOS input referenced to VSS. The RESET# input receiver is a CMOS input defined as a rail-to-rail signal with DC HIGH >= 0.8 x VDDQ and DC LOW =< 0.2 x VDDQ. RESET# assertion and deassertion (See Datasheet)", N3 A13 (in) "Address inputs: Provide the row address for ACTIVATE commands, and the column address and auto precharge bit (A10) for READ/WRITE commands, to select one location out of the memory array in the respective bank. A10 sampled (See Datasheet)", N7 A14 (in) "Address inputs: Provide the row address for ACTIVATE commands, and the column address and auto precharge bit (A10) for READ/WRITE commands, to select one location out of the memory array in the respective bank. A10 sampled (See Datasheet)", N8 A8 (in) "Address inputs: Provide the row address for ACTIVATE commands, and the column address and auto precharge bit (A10) for READ/WRITE commands, to select one location out of the memory array in the respective bank. A10 sampled (See Datasheet)"
part B pins: A1 VSS (power) "Ground.", A2 VDD (power) "Power supply: 1.35V, 1.283-1.45V operational; compatible to 1.5V operation.", A8 VSS (power) "Ground.", A9 VDD (power) "Power supply: 1.35V, 1.283-1.45V operational; compatible to 1.5V operation.", B1 VSS (power) "Ground.", B2 VSSQ (power) "DQ ground: Isolated on the device for improved noise immunity.", B8 VSSQ (power) "DQ ground: Isolated on the device for improved noise immunity.", B9 VDDQ (power) "DQ power supply: 1.35V, 1.283-1.45V operational; compatible with 1.5V operation.", C1 VDDQ (power) "DQ power supply: 1.35V, 1.283-1.45V operational; compatible with 1.5V operation.", C9 VSSQ (power) "DQ ground: Isolated on the device for improved noise immunity.", D1 VSSQ (power) "DQ ground: Isolated on the device for improved noise immunity.", D7 VDD (power) "Power supply: 1.35V, 1.283-1.45V operational; compatible to 1.5V operation.", D8 VSS (power) "Ground.", D9 VSSQ (power) "DQ ground: Isolated on the device for improved noise immunity.", E1 VREFDQ (in) "Reference voltage for data: VREFDQ must be maintained at all times (including self refresh) for proper device operation.", E2 VDDQ (power) "DQ power supply: 1.35V, 1.283-1.45V operational; compatible with 1.5V operation.", E9 VDDQ (power) "DQ power supply: 1.35V, 1.283-1.45V operational; compatible with 1.5V operation.", F2 VSS (power) "Ground.", F8 VSS (power) "Ground.", G2 VDD (power) "Power supply: 1.35V, 1.283-1.45V operational; compatible to 1.5V operation.", G8 VDD (power) "Power supply: 1.35V, 1.283-1.45V operational; compatible to 1.5V operation.", J1 VSS (power) "Ground.", J8 VREFCA (in) "Reference voltage for control, command, and address: VREFCA must be maintained at all times (including self refresh) for proper device operation.", J9 VSS (power) "Ground.", K1 VDD (power) "Power supply: 1.35V, 1.283-1.45V operational; compatible to 1.5V operation.", K9 VDD (power) "Power supply: 1.35V, 1.283-1.45V operational; compatible to 1.5V operation.", L1 VSS (power) "Ground.", L9 VSS (power) "Ground.", M1 VDD (power) "Power supply: 1.35V, 1.283-1.45V operational; compatible to 1.5V operation.", M9 VDD (power) "Power supply: 1.35V, 1.283-1.45V operational; compatible to 1.5V operation.", N1 VSS (power) "Ground.", N9 VSS (power) "Ground."
part C pins: A3 NC "No connect: These balls should be left unconnected (the ball has no connection to the DRAM or to other balls).", A7 NF "No function: When configured as a x4 device, these balls are NF. When configured as a x8 device, these balls are defined as TDQS#, DQ[7:4].", D2 NF "No function: When configured as a x4 device, these balls are NF. When configured as a x8 device, these balls are defined as TDQS#, DQ[7:4].", E3 NF "No function: When configured as a x4 device, these balls are NF. When configured as a x8 device, these balls are defined as TDQS#, DQ[7:4].", E7 NF "No function: When configured as a x4 device, these balls are NF. When configured as a x8 device, these balls are defined as TDQS#, DQ[7:4].", E8 NF "No function: When configured as a x4 device, these balls are NF. When configured as a x8 device, these balls are defined as TDQS#, DQ[7:4].", F1 NC "No connect: These balls should be left unconnected (the ball has no connection to the DRAM or to other balls).", F9 NC "No connect: These balls should be left unconnected (the ball has no connection to the DRAM or to other balls).", H1 NC "No connect: These balls should be left unconnected (the ball has no connection to the DRAM or to other balls).", H9 NC "No connect: These balls should be left unconnected (the ball has no connection to the DRAM or to other balls).", J7 NC "No connect: These balls should be left unconnected (the ball has no connection to the DRAM or to other balls)."